# Altium footprint library PCB - FUSE - FUSE 1206_3216 0.9MM.PcbLib: 1 footprints
Each footprint in its own frame and in the unit in brackets; x right, y up, seen from the top. Pads: shape width x height; smd on the part's side, far side on the other; paste and mask are expansions set on the pad; w line width, h text height; cw(c..) or ccw(c..) is an arc to the next point about the centre after c.
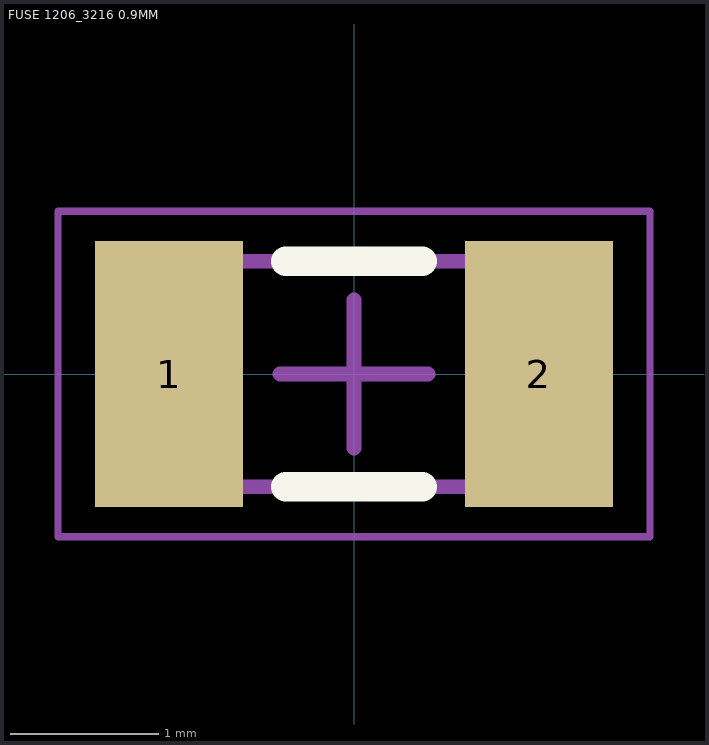
[diagram p0: the footprint, top view; thin cyan lines are the x and y axes]

## FUSE 1206_3216 0.9MM [mm] "Chip Fuse 200mA 125V AC 125V DC, 2-Leads, Body 3.18x1.52mm, IPC Medium Density"
height 0.66
pads (2):
  rect 1x1.8 smd: 1(-1.25,0) 2(1.25,0)
Top Overlay:
  lines w0.2: -0.46,-0.762 0.46,-0.762 ; -0.46,0.762 0.46,0.762
Mechanical 13:
  lines w0.1: -1.587,-0.762 1.587,-0.762 1.587,0.762 -1.587,0.762 -1.587,-0.762
Mechanical 15:
  lines w0.05: -2,-1.1 2,-1.1 2,1.1 -2,1.1 -2,-1.1
  lines w0.1: -0.5,0 0.5,0 ; 0,-0.5 0,0.5
3D body "FUSE 1206_3216 0.9MM.step": height 0.66, standoff 0, extent -1.587,-0.762 1.588,0.762